# EAGLE library part 6253XX20621_62535020621 (library 61201021621_Eagle_WR-BHD_rev19b)
WR-BHD 2.00 mm Male SMT Box Header KIND PROPERTIES: Pitch 2 mm Gender:Male MATERIAL PROPERTIES: Insulator Material:PA9T Insulator Flammability Rating UL94 V-0 Insulator Color:Black Contact Material :Copper Alloy Contact Plating :Gold Contact Type: Stamped GENERAL INFORMATION: Operating Temperature:-40 °C up to +125 °C Compliance:RoHS Working Voltage: 250 V (AC) Withstanding Voltage:500 V (AC) Contact Resistance: 20 mΩ Insulation Resistance:1000 MΩ PACKAGING PROPERTIES Packaging :Tape and Reel with Cap <https://katalog.we-online.com/media/images/v2/o32950v209%20Family_WR-BHD_6253xx20621.jpg> Details see: https://katalog.we-online.com/en/em/BHD_2_00_SMT_MALE_BOX_HEADER_6253XX20621 Updated by Yingchun,Shan 2019-11-04 2019 (C) Würth Elektronik
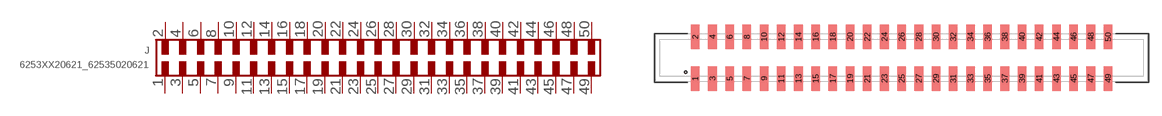
[diagram p85: symbol with the pads of 62535020621; footprint 62535020621]

Designator prefix J

## 6253XX20621_62535020621 (CONTACT-RESISTANCE: 20mOhm; DATASHEET-URL: https://katalog.we-online.com/em/datasheet/62535020621.pdf; GENDER: Male; IR: 2A; L: 57.25mm; MATES: WR-BHD 2.0mm Female IDC Connector with Strain Relief; MOUNT: SMT; PACKAGING: Tape and Reel with Cap; PART-NUMBER: 62535020621; PINS: 50; PITCH: 2mm; TOL-R: max.; TYPE: Straight; WORKING-VOLTAGE: 250V(AC))  [62535020621]
1  1  pas
2  2  pas
3  3  pas
4  4  pas
5  5  pas
6  6  pas
7  7  pas
8  8  pas
9  9  pas
10  10  pas
11  11  pas
12  12  pas
13  13  pas
14  14  pas
15  15  pas
16  16  pas
17  17  pas
18  18  pas
19  19  pas
20  20  pas
21  21  pas
22  22  pas
23  23  pas
24  24  pas
25  25  pas
26  26  pas
27  27  pas
28  28  pas
29  29  pas
30  30  pas
31  31  pas
32  32  pas
33  33  pas
34  34  pas
35  35  pas
36  36  pas
37  37  pas
38  38  pas
39  39  pas
40  40  pas
41  41  pas
42  42  pas
43  43  pas
44  44  pas
45  45  pas
46  46  pas
47  47  pas
48  48  pas
49  49  pas
50  50  pas

## Footprint 62535020621 (pad centres in mm)
WR-BHD 2.00 mm Male SMT Box Header,50 pins
smd 1 x 2.85: 1 -24,-2.425; 2 -24,2.425; 3 -22,-2.425; 4 -22,2.425; 5 -20,-2.425; 6 -20,2.425; 7 -18,-2.425; 8 -18,2.425; 9 -16,-2.425; 10 -16,2.425; 11 -14,-2.425; 12 -14,2.425; 13 -12,-2.425; 14 -12,2.425; 15 -10,-2.425; 16 -10,2.425; 17 -8,-2.425; 18 -8,2.425; 19 -6,-2.425; 20 -6,2.425; 21 -4,-2.425; 22 -4,2.425; 23 -2,-2.425; 24 -2,2.425; 25 0,-2.425; 26 0,2.425; 27 2,-2.425; 28 2,2.425; 29 4,-2.425; 30 4,2.425; 31 6,-2.425; 32 6,2.425; 33 8,-2.425; 34 8,2.425; 35 10,-2.425; 36 10,2.425; 37 12,-2.425; 38 12,2.425; 39 14,-2.425; 40 14,2.425; 41 16,-2.425; 42 16,2.425; 43 18,-2.425; 44 18,2.425; 45 20,-2.425; 46 20,2.425; 47 22,-2.425; 48 22,2.425; 49 24,-2.425; 50 24,2.425